# Altium footprint library POWER_PADS.PcbLib: 1 footprints
Each footprint in its own frame and in the unit in brackets; x right, y up, seen from the top. Pads: shape width x height; smd on the part's side, far side on the other; paste and mask are expansions set on the pad; w line width, h text height; cw(c..) or ccw(c..) is an arc to the next point about the centre after c.
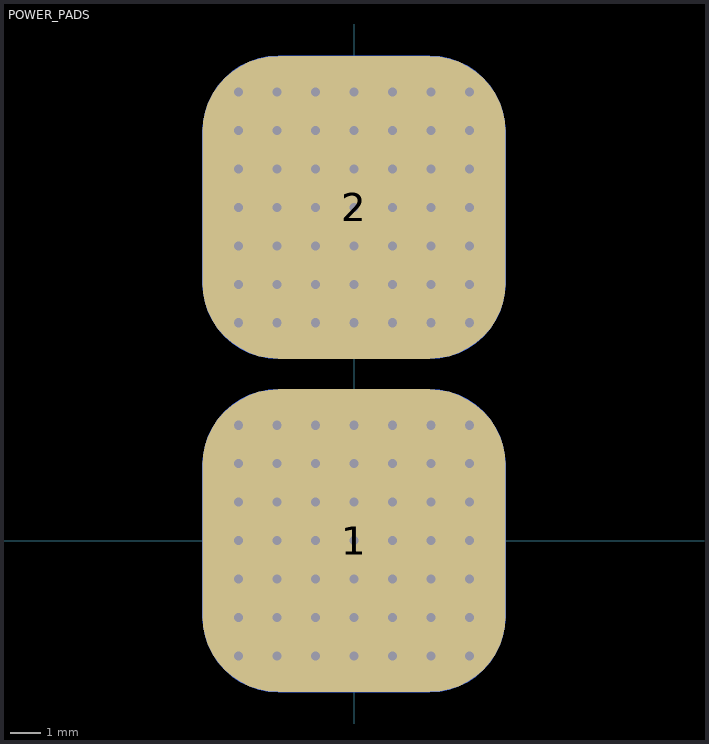
[diagram p0: the footprint, top view; thin cyan lines are the x and y axes]

## POWER_PADS [mm]
pads (4):
  rrect50% 10x10 smd far side: 1(0,0) 2(0,11)
  rrect50% 10x10 smd: 1(0,0) 2(0,11)
via -3.81,7.19 diameter 0.6 hole 0.3
via -2.54,7.19 diameter 0.6 hole 0.3
via -1.27,7.19 diameter 0.6 hole 0.3
via 0,7.19 diameter 0.6 hole 0.3
via 1.27,7.19 diameter 0.6 hole 0.3
via 2.54,7.19 diameter 0.6 hole 0.3
via 3.81,7.19 diameter 0.6 hole 0.3
via 3.81,8.46 diameter 0.6 hole 0.3
via 2.54,8.46 diameter 0.6 hole 0.3
via 1.27,8.46 diameter 0.6 hole 0.3
via 0,8.46 diameter 0.6 hole 0.3
via -1.27,8.46 diameter 0.6 hole 0.3
via -2.54,8.46 diameter 0.6 hole 0.3
via -3.81,8.46 diameter 0.6 hole 0.3
via -3.81,9.73 diameter 0.6 hole 0.3
via -2.54,9.73 diameter 0.6 hole 0.3
via -1.27,9.73 diameter 0.6 hole 0.3
via 0,9.73 diameter 0.6 hole 0.3
via 1.27,9.73 diameter 0.6 hole 0.3
via 2.54,9.73 diameter 0.6 hole 0.3
via 3.81,9.73 diameter 0.6 hole 0.3
via 3.81,11 diameter 0.6 hole 0.3
via 2.54,11 diameter 0.6 hole 0.3
via 1.27,11 diameter 0.6 hole 0.3
via 0,11 diameter 0.6 hole 0.3
via -1.27,11 diameter 0.6 hole 0.3
via -2.54,11 diameter 0.6 hole 0.3
via -3.81,11 diameter 0.6 hole 0.3
via 3.81,12.27 diameter 0.6 hole 0.3
via 2.54,12.27 diameter 0.6 hole 0.3
via 1.27,12.27 diameter 0.6 hole 0.3
via 0,12.27 diameter 0.6 hole 0.3
via -1.27,12.27 diameter 0.6 hole 0.3
via -2.54,12.27 diameter 0.6 hole 0.3
via -3.81,12.27 diameter 0.6 hole 0.3
via 3.81,13.54 diameter 0.6 hole 0.3
via 2.54,13.54 diameter 0.6 hole 0.3
via 1.27,13.54 diameter 0.6 hole 0.3
via 0,13.54 diameter 0.6 hole 0.3
via -1.27,13.54 diameter 0.6 hole 0.3
via -2.54,13.54 diameter 0.6 hole 0.3
via -3.81,13.54 diameter 0.6 hole 0.3
via 3.81,14.81 diameter 0.6 hole 0.3
via 3.81,14.81 diameter 0.6 hole 0.3
via 2.54,14.81 diameter 0.6 hole 0.3
via 1.27,14.81 diameter 0.6 hole 0.3
via 0,14.81 diameter 0.6 hole 0.3
via -1.27,14.81 diameter 0.6 hole 0.3
via -2.54,14.81 diameter 0.6 hole 0.3
via -3.81,14.81 diameter 0.6 hole 0.3
via -3.81,3.81 diameter 0.6 hole 0.3
via -2.54,3.81 diameter 0.6 hole 0.3
via -1.27,3.81 diameter 0.6 hole 0.3
via 0,3.81 diameter 0.6 hole 0.3
via 1.27,3.81 diameter 0.6 hole 0.3
via 2.54,3.81 diameter 0.6 hole 0.3
via 3.81,3.81 diameter 0.6 hole 0.3
via 3.81,3.81 diameter 0.6 hole 0.3
via -3.81,2.54 diameter 0.6 hole 0.3
via -2.54,2.54 diameter 0.6 hole 0.3
via -1.27,2.54 diameter 0.6 hole 0.3
via 0,2.54 diameter 0.6 hole 0.3
via 1.27,2.54 diameter 0.6 hole 0.3
via 2.54,2.54 diameter 0.6 hole 0.3
via 3.81,2.54 diameter 0.6 hole 0.3
via -3.81,1.27 diameter 0.6 hole 0.3
via -2.54,1.27 diameter 0.6 hole 0.3
via -1.27,1.27 diameter 0.6 hole 0.3
via 0,1.27 diameter 0.6 hole 0.3
via 1.27,1.27 diameter 0.6 hole 0.3
via 2.54,1.27 diameter 0.6 hole 0.3
via 3.81,1.27 diameter 0.6 hole 0.3
via -3.81,0 diameter 0.6 hole 0.3
via -2.54,0 diameter 0.6 hole 0.3
via -1.27,0 diameter 0.6 hole 0.3
via 0,0 diameter 0.6 hole 0.3
via 1.27,0 diameter 0.6 hole 0.3
via 2.54,0 diameter 0.6 hole 0.3
via 3.81,0 diameter 0.6 hole 0.3
via 3.81,-1.27 diameter 0.6 hole 0.3
via 2.54,-1.27 diameter 0.6 hole 0.3
via 1.27,-1.27 diameter 0.6 hole 0.3
via 0,-1.27 diameter 0.6 hole 0.3
via -1.27,-1.27 diameter 0.6 hole 0.3
via -2.54,-1.27 diameter 0.6 hole 0.3
via -3.81,-1.27 diameter 0.6 hole 0.3
via -3.81,-2.54 diameter 0.6 hole 0.3
via -2.54,-2.54 diameter 0.6 hole 0.3
via -1.27,-2.54 diameter 0.6 hole 0.3
via 0,-2.54 diameter 0.6 hole 0.3
via 1.27,-2.54 diameter 0.6 hole 0.3
via 2.54,-2.54 diameter 0.6 hole 0.3
via 3.81,-2.54 diameter 0.6 hole 0.3
via 3.81,-3.81 diameter 0.6 hole 0.3
via 2.54,-3.81 diameter 0.6 hole 0.3
via 1.27,-3.81 diameter 0.6 hole 0.3
via 0,-3.81 diameter 0.6 hole 0.3
via -1.27,-3.81 diameter 0.6 hole 0.3
via -2.54,-3.81 diameter 0.6 hole 0.3
via -3.81,-3.81 diameter 0.6 hole 0.3